# EAGLE library part LEDVOLTMETER_SC39-11 (library mini_digitboard)
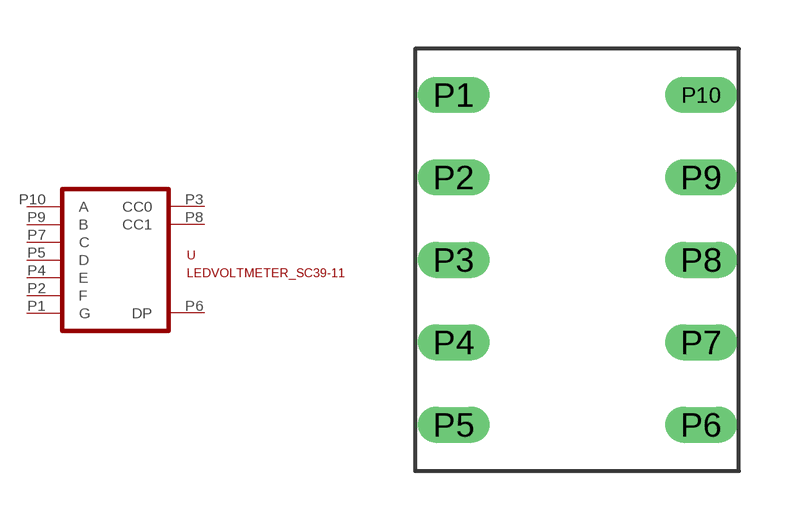
[diagram p0: symbol with the pads of LEDVOLTMETER_SC39-11; footprint LEDVOLTMETER_SC39-11]

Designator prefix -

## LEDVOLTMETER_SC39-11  [LEDVOLTMETER_SC39-11]
P1  G
P2  F
P3  CC0
P4  E
P5  D
P6  DP
P7  C
P8  CC1
P9  B
P10  A

## Footprint LEDVOLTMETER_SC39-11 (pad centres in mm)
drill 0.6 long: P1 -3.81,5.08; P2 -3.81,2.54; P3 -3.81,0; P4 -3.81,-2.54; P5 -3.81,-5.08; P6 3.81,-5.08; P7 3.81,-2.54; P8 3.81,0; P9 3.81,2.54; P10 3.81,5.08